# EAGLE library part XCV150ES_BG352 (library xilinx-xcv)
xcv150es_bg352 edit this description Auto generated by make-symbol-device-package-bsdl.ulp Rev. 26 Source: xcv150es_bg352.bsd
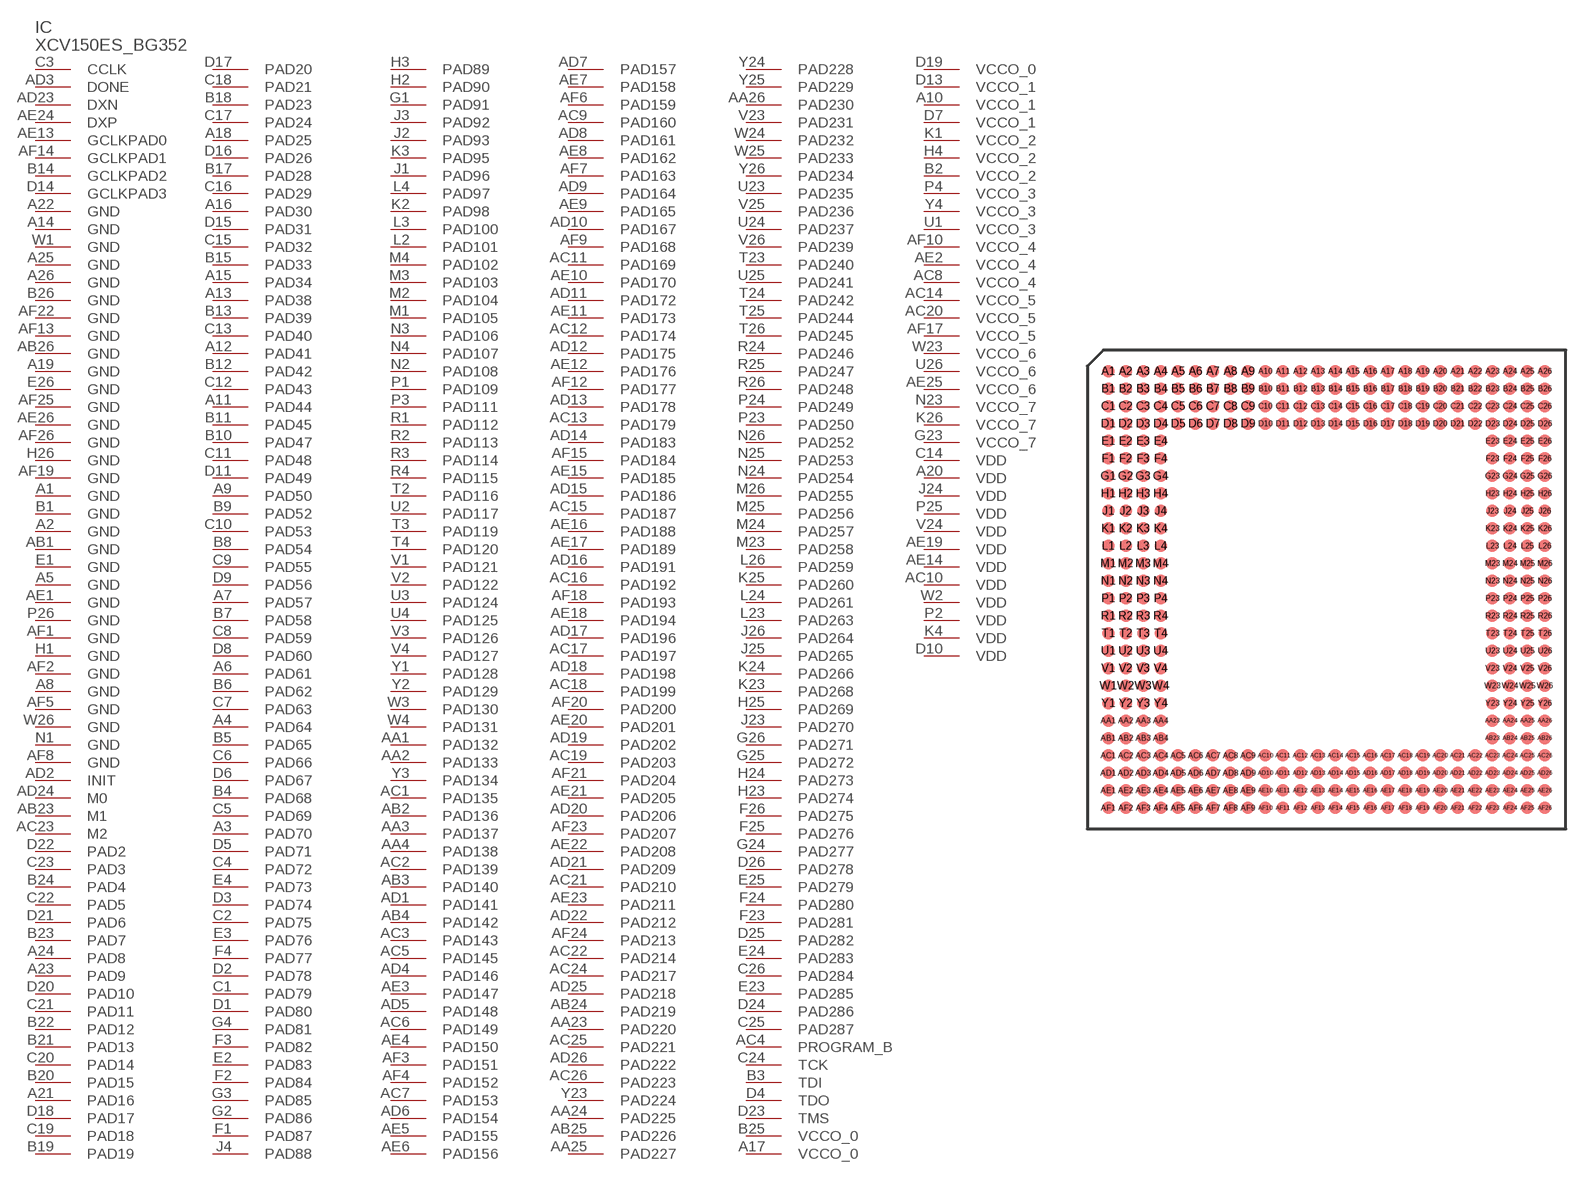
[diagram p35: symbol with the pads of BG352; footprint BG352]

Designator prefix IC

## XCV150ES_BG352 (OC_FARNELL: unknown; OC_NEWARK: unknown)  [BG352]
A1  GND  pwr
A2  GND  pwr
A3  PAD70
A4  PAD64
A5  GND  pwr
A6  PAD61
A7  PAD57
A8  GND  pwr
A9  PAD50
A10  VCCO_1  pwr
A11  PAD44
A12  PAD41
A13  PAD38
A14  GND  pwr
A15  PAD34
A16  PAD30
A17  VCCO_0  pwr
A18  PAD25
A19  GND  pwr
A20  VDD  pwr
A21  PAD16
A22  GND  pwr
A23  PAD9
A24  PAD8
A25  GND  pwr
A26  GND  pwr
AA1  PAD132
AA2  PAD133
AA3  PAD137
AA4  PAD138
AA23  PAD220
AA24  PAD225
AA25  PAD227
AA26  PAD230
AB1  GND  pwr
AB2  PAD136
AB3  PAD140
AB4  PAD142
AB23  M1  in
AB24  PAD219
AB25  PAD226
AB26  GND  pwr
AC1  PAD135
AC2  PAD139
AC3  PAD143
AC4  PROGRAM_B  in
AC5  PAD145
AC6  PAD149
AC7  PAD153
AC8  VCCO_4  pwr
AC9  PAD160
AC10  VDD  pwr
AC11  PAD169
AC12  PAD174
AC13  PAD179
AC14  VCCO_5  pwr
AC15  PAD187
AC16  PAD192
AC17  PAD197
AC18  PAD199
AC19  PAD203
AC20  VCCO_5  pwr
AC21  PAD210
AC22  PAD214
AC23  M2  in
AC24  PAD217
AC25  PAD221
AC26  PAD223
AD1  PAD141
AD2  INIT
AD3  DONE
AD4  PAD146
AD5  PAD148
AD6  PAD154
AD7  PAD157
AD8  PAD161
AD9  PAD164
AD10  PAD167
AD11  PAD172
AD12  PAD175
AD13  PAD178
AD14  PAD183
AD15  PAD186
AD16  PAD191
AD17  PAD196
AD18  PAD198
AD19  PAD202
AD20  PAD206
AD21  PAD209
AD22  PAD212
AD23  DXN  pas
AD24  M0  in
AD25  PAD218
AD26  PAD222
AE1  GND  pwr
AE2  VCCO_4  pwr
AE3  PAD147
AE4  PAD150
AE5  PAD155
AE6  PAD156
AE7  PAD158
AE8  PAD162
AE9  PAD165
AE10  PAD170
AE11  PAD173
AE12  PAD176
AE13  GCLKPAD0  in
AE14  VDD  pwr
AE15  PAD185
AE16  PAD188
AE17  PAD189
AE18  PAD194
AE19  VDD  pwr
AE20  PAD201
AE21  PAD205
AE22  PAD208
AE23  PAD211
AE24  DXP  pas
AE25  VCCO_6  pwr
AE26  GND  pwr
AF1  GND  pwr
AF2  GND  pwr
AF3  PAD151
AF4  PAD152
AF5  GND  pwr
AF6  PAD159
AF7  PAD163
AF8  GND  pwr
AF9  PAD168
AF10  VCCO_4  pwr
AF12  PAD177
AF13  GND  pwr
AF14  GCLKPAD1  in
AF15  PAD184
AF17  VCCO_5  pwr
AF18  PAD193
AF19  GND  pwr
AF20  PAD200
AF21  PAD204
AF22  GND  pwr
AF23  PAD207
AF24  PAD213
AF25  GND  pwr
AF26  GND  pwr
B1  GND  pwr
B2  VCCO_2  pwr
B3  TDI  in
B4  PAD68
B5  PAD65
B6  PAD62
B7  PAD58
B8  PAD54
B9  PAD52
B10  PAD47
B11  PAD45
B12  PAD42
B13  PAD39
B14  GCLKPAD2  in
B15  PAD33
B17  PAD28
B18  PAD23
B19  PAD19
B20  PAD15
B21  PAD13
B22  PAD12
B23  PAD7
B24  PAD4
B25  VCCO_0  pwr
B26  GND  pwr
C1  PAD79
C2  PAD75
C3  CCLK
C4  PAD72
C5  PAD69
C6  PAD66
C7  PAD63
C8  PAD59
C9  PAD55
C10  PAD53
C11  PAD48
C12  PAD43
C13  PAD40
C14  VDD  pwr
C15  PAD32
C16  PAD29
C17  PAD24
C18  PAD21
C19  PAD18
C20  PAD14
C21  PAD11
C22  PAD5
C23  PAD3
C24  TCK  in
C25  PAD287
C26  PAD284
D1  PAD80
D2  PAD78
D3  PAD74
D4  TDO  out
D5  PAD71
D6  PAD67
D7  VCCO_1  pwr
D8  PAD60
D9  PAD56
D10  VDD  pwr
D11  PAD49
D13  VCCO_1  pwr
D14  GCLKPAD3  in
D15  PAD31
D16  PAD26
D17  PAD20
D18  PAD17
D19  VCCO_0  pwr
D20  PAD10
D21  PAD6
D22  PAD2
D23  TMS  in
D24  PAD286
D25  PAD282
D26  PAD278
E1  GND  pwr
E2  PAD83
E3  PAD76
E4  PAD73
E23  PAD285
E24  PAD283
E25  PAD279
E26  GND  pwr
F1  PAD87
F2  PAD84
F3  PAD82
F4  PAD77
F23  PAD281
F24  PAD280
F25  PAD276
F26  PAD275
G1  PAD91
G2  PAD86
G3  PAD85
G4  PAD81
G23  VCCO_7  pwr
G24  PAD277
G25  PAD272
G26  PAD271
H1  GND  pwr
H2  PAD90
H3  PAD89
H4  VCCO_2  pwr
H23  PAD274
H24  PAD273
H25  PAD269
H26  GND  pwr
J1  PAD96
J2  PAD93
J3  PAD92
J4  PAD88
J23  PAD270
J24  VDD  pwr
J25  PAD265
J26  PAD264
K1  VCCO_2  pwr
K2  PAD98
K3  PAD95
K4  VDD  pwr
K23  PAD268
K24  PAD266
K25  PAD260
K26  VCCO_7  pwr
L2  PAD101
L3  PAD100
L4  PAD97
L23  PAD263
L24  PAD261
L26  PAD259
M1  PAD105
M2  PAD104
M3  PAD103
M4  PAD102
M23  PAD258
M24  PAD257
M25  PAD256
M26  PAD255
N1  GND  pwr
N2  PAD108
N3  PAD106
N4  PAD107
N23  VCCO_7  pwr
N24  PAD254
N25  PAD253
N26  PAD252
P1  PAD109
P2  VDD  pwr
P3  PAD111
P4  VCCO_3  pwr
P23  PAD250
P24  PAD249
P25  VDD  pwr
P26  GND  pwr
R1  PAD112
R2  PAD113
R3  PAD114
R4  PAD115
R24  PAD246
R25  PAD247
R26  PAD248
T2  PAD116
T3  PAD119
T4  PAD120
T23  PAD240
T24  PAD242
T25  PAD244
T26  PAD245
U1  VCCO_3  pwr
U2  PAD117
U3  PAD124
U4  PAD125
U23  PAD235
U24  PAD237
U25  PAD241
U26  VCCO_6  pwr
V1  PAD121
V2  PAD122
V3  PAD126
V4  PAD127
V23  PAD231
V24  VDD  pwr
V25  PAD236
V26  PAD239
W1  GND  pwr
W2  VDD  pwr
W3  PAD130
W4  PAD131
W23  VCCO_6  pwr
W24  PAD232
W25  PAD233
W26  GND  pwr
Y1  PAD128
Y2  PAD129
Y3  PAD134
Y4  VCCO_3  pwr
Y23  PAD224
Y24  PAD228
Y25  PAD229
Y26  PAD234

## Footprint BG352 (pad centres in mm)
xcv100e_bg352 edit this description Auto generated by make-symbol-device-package-bsdl.ulp Rev. 26 Source: xcv100e_bg352.bsd
smd 0.9 x 0.9: A1 -15.875,15.875; A2 -14.605,15.875; A3 -13.335,15.875; A4 -12.065,15.875; A5 -10.795,15.875; A6 -9.525,15.875; A7 -8.255,15.875; A8 -6.985,15.875; A9 -5.715,15.875; A10 -4.445,15.875; A11 -3.175,15.875; A12 -1.905,15.875; A13 -0.635,15.875; A14 0.635,15.875; A15 1.905,15.875; A16 3.175,15.875; A17 4.445,15.875; A18 5.715,15.875; A19 6.985,15.875; A20 8.255,15.875; A21 9.525,15.875; A22 10.795,15.875; A23 12.065,15.875; A24 13.335,15.875; A25 14.605,15.875; A26 15.875,15.875; AA1 -15.875,-9.525; AA2 -14.605,-9.525; AA3 -13.335,-9.525; AA4 -12.065,-9.525; AA23 12.065,-9.525; AA24 13.335,-9.525; AA25 14.605,-9.525; AA26 15.875,-9.525; AB1 -15.875,-10.795; AB2 -14.605,-10.795; AB3 -13.335,-10.795; AB4 -12.065,-10.795; AB23 12.065,-10.795; AB24 13.335,-10.795; AB25 14.605,-10.795; AB26 15.875,-10.795; AC1 -15.875,-12.065; AC2 -14.605,-12.065; AC3 -13.335,-12.065; AC4 -12.065,-12.065; AC5 -10.795,-12.065; AC6 -9.525,-12.065; AC7 -8.255,-12.065; AC8 -6.985,-12.065; AC9 -5.715,-12.065; AC10 -4.445,-12.065; AC11 -3.175,-12.065; AC12 -1.905,-12.065; AC13 -0.635,-12.065; AC14 0.635,-12.065; AC15 1.905,-12.065; AC16 3.175,-12.065; AC17 4.445,-12.065; AC18 5.715,-12.065; AC19 6.985,-12.065; AC20 8.255,-12.065; AC21 9.525,-12.065; AC22 10.795,-12.065; AC23 12.065,-12.065; AC24 13.335,-12.065; AC25 14.605,-12.065; AC26 15.875,-12.065; AD1 -15.875,-13.335; AD2 -14.605,-13.335; AD3 -13.335,-13.335; AD4 -12.065,-13.335; AD5 -10.795,-13.335; AD6 -9.525,-13.335; AD7 -8.255,-13.335; AD8 -6.985,-13.335; AD9 -5.715,-13.335; AD10 -4.445,-13.335; AD11 -3.175,-13.335; AD12 -1.905,-13.335; AD13 -0.635,-13.335; AD14 0.635,-13.335; AD15 1.905,-13.335; AD16 3.175,-13.335; AD17 4.445,-13.335; AD18 5.715,-13.335; AD19 6.985,-13.335; AD20 8.255,-13.335; AD21 9.525,-13.335; AD22 10.795,-13.335; AD23 12.065,-13.335; AD24 13.335,-13.335; AD25 14.605,-13.335; AD26 15.875,-13.335; AE1 -15.875,-14.605; AE2 -14.605,-14.605; AE3 -13.335,-14.605; AE4 -12.065,-14.605; AE5 -10.795,-14.605; AE6 -9.525,-14.605; AE7 -8.255,-14.605; AE8 -6.985,-14.605; AE9 -5.715,-14.605; AE10 -4.445,-14.605; AE11 -3.175,-14.605; AE12 -1.905,-14.605; AE13 -0.635,-14.605; AE14 0.635,-14.605; AE15 1.905,-14.605; AE16 3.175,-14.605; AE17 4.445,-14.605; AE18 5.715,-14.605; AE19 6.985,-14.605; AE20 8.255,-14.605; AE21 9.525,-14.605; AE22 10.795,-14.605; AE23 12.065,-14.605; AE24 13.335,-14.605; AE25 14.605,-14.605; AE26 15.875,-14.605; AF1 -15.875,-15.875; AF2 -14.605,-15.875; AF3 -13.335,-15.875; AF4 -12.065,-15.875; AF5 -10.795,-15.875; AF6 -9.525,-15.875; AF7 -8.255,-15.875; AF8 -6.985,-15.875; AF9 -5.715,-15.875; AF10 -4.445,-15.875; AF11 -3.175,-15.875; AF12 -1.905,-15.875; AF13 -0.635,-15.875; AF14 0.635,-15.875; AF15 1.905,-15.875; AF16 3.175,-15.875; AF17 4.445,-15.875; AF18 5.715,-15.875; AF19 6.985,-15.875; AF20 8.255,-15.875; AF21 9.525,-15.875; AF22 10.795,-15.875; AF23 12.065,-15.875; AF24 13.335,-15.875; AF25 14.605,-15.875; AF26 15.875,-15.875; B1 -15.875,14.605; B2 -14.605,14.605; B3 -13.335,14.605; B4 -12.065,14.605; B5 -10.795,14.605; B6 -9.525,14.605; B7 -8.255,14.605; B8 -6.985,14.605; B9 -5.715,14.605; B10 -4.445,14.605; B11 -3.175,14.605; B12 -1.905,14.605; B13 -0.635,14.605; B14 0.635,14.605; B15 1.905,14.605; B16 3.175,14.605; B17 4.445,14.605; B18 5.715,14.605; B19 6.985,14.605; B20 8.255,14.605; B21 9.525,14.605; B22 10.795,14.605; B23 12.065,14.605; B24 13.335,14.605; B25 14.605,14.605; B26 15.875,14.605; C1 -15.875,13.335; C2 -14.605,13.335; C3 -13.335,13.335; C4 -12.065,13.335; C5 -10.795,13.335; C6 -9.525,13.335; C7 -8.255,13.335; C8 -6.985,13.335; C9 -5.715,13.335; C10 -4.445,13.335; C11 -3.175,13.335; C12 -1.905,13.335; C13 -0.635,13.335; C14 0.635,13.335; C15 1.905,13.335; C16 3.175,13.335; C17 4.445,13.335; C18 5.715,13.335; C19 6.985,13.335; C20 8.255,13.335; C21 9.525,13.335; C22 10.795,13.335; C23 12.065,13.335; C24 13.335,13.335; C25 14.605,13.335; C26 15.875,13.335; D1 -15.875,12.065; D2 -14.605,12.065; D3 -13.335,12.065; D4 -12.065,12.065; D5 -10.795,12.065; D6 -9.525,12.065; D7 -8.255,12.065; D8 -6.985,12.065; D9 -5.715,12.065; D10 -4.445,12.065; D11 -3.175,12.065; D12 -1.905,12.065; D13 -0.635,12.065; D14 0.635,12.065; D15 1.905,12.065; D16 3.175,12.065; D17 4.445,12.065; D18 5.715,12.065; D19 6.985,12.065; D20 8.255,12.065; D21 9.525,12.065; D22 10.795,12.065; D23 12.065,12.065; D24 13.335,12.065; D25 14.605,12.065; D26 15.875,12.065; E1 -15.875,10.795; E2 -14.605,10.795; E3 -13.335,10.795; E4 -12.065,10.795; E23 12.065,10.795; E24 13.335,10.795; E25 14.605,10.795; E26 15.875,10.795; F1 -15.875,9.525; F2 -14.605,9.525; F3 -13.335,9.525; F4 -12.065,9.525; F23 12.065,9.525; F24 13.335,9.525; F25 14.605,9.525; F26 15.875,9.525; G1 -15.875,8.255; G2 -14.605,8.255; G3 -13.335,8.255; G4 -12.065,8.255; G23 12.065,8.255; G24 13.335,8.255; G25 14.605,8.255; G26 15.875,8.255; H1 -15.875,6.985; H2 -14.605,6.985; H3 -13.335,6.985; H4 -12.065,6.985; H23 12.065,6.985; H24 13.335,6.985; H25 14.605,6.985; H26 15.875,6.985; J1 -15.875,5.715; J2 -14.605,5.715; J3 -13.335,5.715; J4 -12.065,5.715; J23 12.065,5.715; J24 13.335,5.715; J25 14.605,5.715; J26 15.875,5.715; K1 -15.875,4.445; K2 -14.605,4.445; K3 -13.335,4.445; K4 -12.065,4.445; K23 12.065,4.445; K24 13.335,4.445; K25 14.605,4.445; K26 15.875,4.445; L1 -15.875,3.175; L2 -14.605,3.175; L3 -13.335,3.175; L4 -12.065,3.175; L23 12.065,3.175; L24 13.335,3.175; L25 14.605,3.175; L26 15.875,3.175; M1 -15.875,1.905; M2 -14.605,1.905; M3 -13.335,1.905; M4 -12.065,1.905; M23 12.065,1.905; M24 13.335,1.905; M25 14.605,1.905; M26 15.875,1.905; N1 -15.875,0.635; N2 -14.605,0.635; N3 -13.335,0.635; N4 -12.065,0.635; N23 12.065,0.635; N24 13.335,0.635; N25 14.605,0.635; N26 15.875,0.635; P1 -15.875,-0.635; P2 -14.605,-0.635; P3 -13.335,-0.635; P4 -12.065,-0.635; P23 12.065,-0.635; P24 13.335,-0.635; P25 14.605,-0.635; P26 15.875,-0.635; R1 -15.875,-1.905; R2 -14.605,-1.905; R3 -13.335,-1.905; R4 -12.065,-1.905; R23 12.065,-1.905; R24 13.335,-1.905; R25 14.605,-1.905; R26 15.875,-1.905; T1 -15.875,-3.175; T2 -14.605,-3.175; T3 -13.335,-3.175; T4 -12.065,-3.175; T23 12.065,-3.175; T24 13.335,-3.175; T25 14.605,-3.175; T26 15.875,-3.175; U1 -15.875,-4.445; U2 -14.605,-4.445; U3 -13.335,-4.445; U4 -12.065,-4.445; U23 12.065,-4.445; U24 13.335,-4.445; U25 14.605,-4.445; U26 15.875,-4.445; V1 -15.875,-5.715; V2 -14.605,-5.715; V3 -13.335,-5.715; V4 -12.065,-5.715; V23 12.065,-5.715; V24 13.335,-5.715; V25 14.605,-5.715; V26 15.875,-5.715; W1 -15.875,-6.985; W2 -14.605,-6.985; W3 -13.335,-6.985; W4 -12.065,-6.985; W23 12.065,-6.985; W24 13.335,-6.985; W25 14.605,-6.985; W26 15.875,-6.985; Y1 -15.875,-8.255; Y2 -14.605,-8.255; Y3 -13.335,-8.255; Y4 -12.065,-8.255; Y23 12.065,-8.255; Y24 13.335,-8.255; Y25 14.605,-8.255; Y26 15.875,-8.255